# Altium footprint library PcbLib1.PcbLib: 11 footprints
Each footprint in its own frame and in the unit in brackets; x right, y up, seen from the top. Pads: shape width x height; smd on the part's side, far side on the other; paste and mask are expansions set on the pad; w line width, h text height; cw(c..) or ccw(c..) is an arc to the next point about the centre after c.
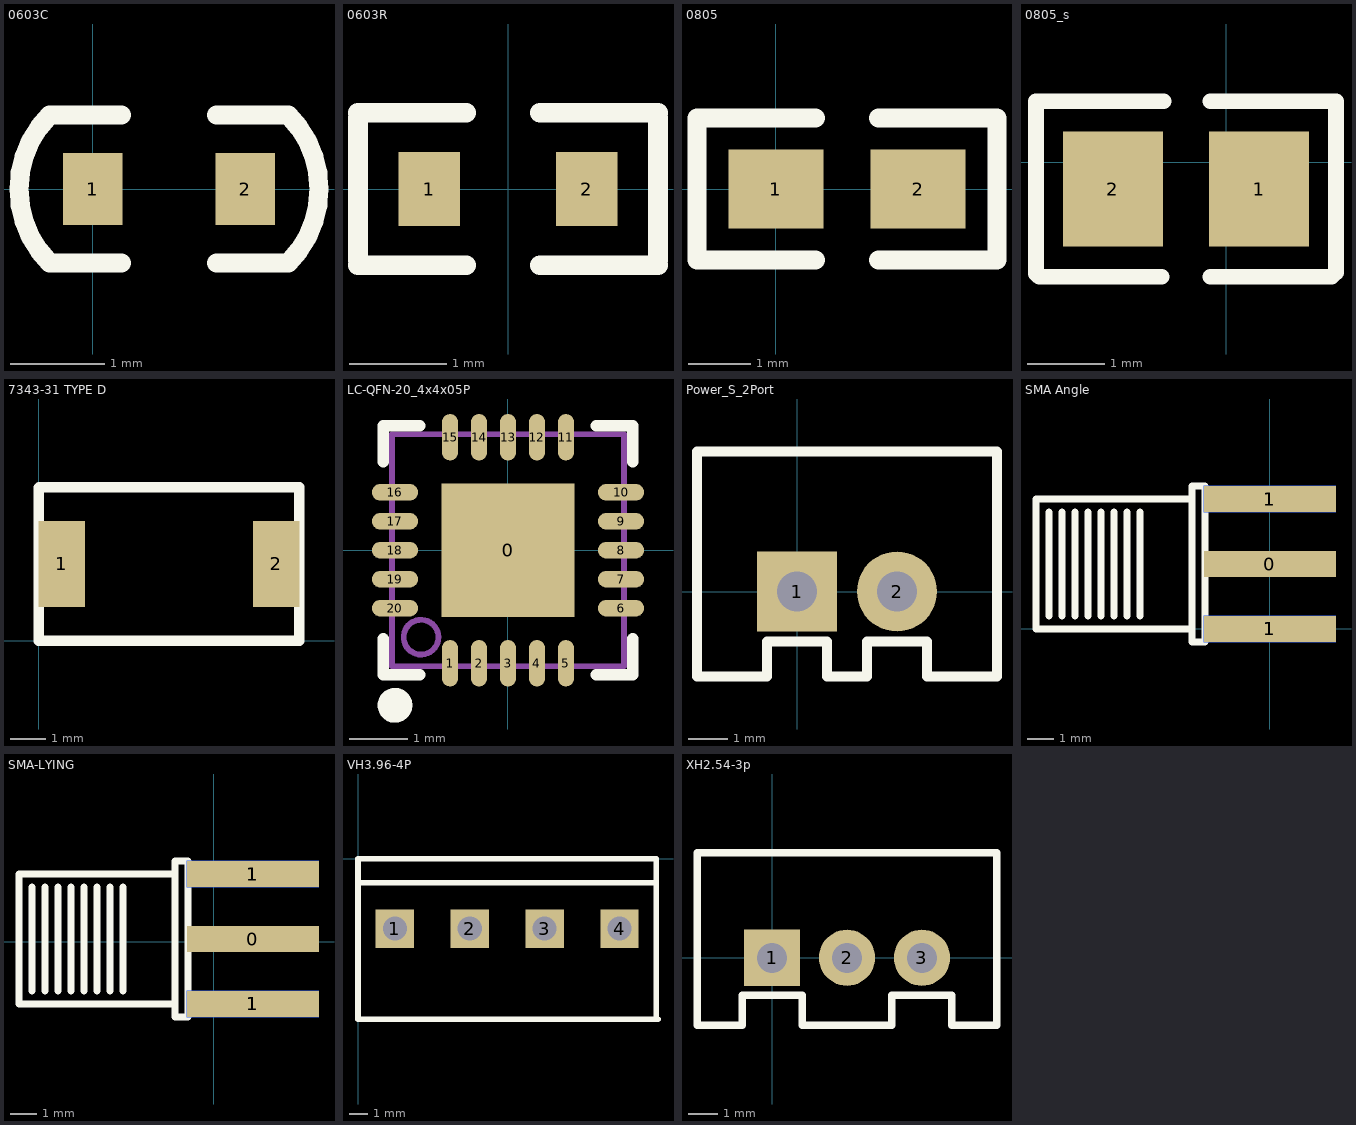
[diagram p0: the footprints below, top view; thin cyan lines are the x and y axes]

## 0603C [mil]
pads (2):
  rect 25x30 smd: 1(0,0) 2(64,0)
Top Overlay:
  lines w8: 12,-31 -18,-31 cw(c13,0) -18,31 12,31 ; 52,-31 82,-31 ccw(c51,0) 82,31 52,31

## 0603R [mil]
pads (2):
  rect 25x30 smd: 1(-32,0) 2(32,0)
Top Overlay:
  lines w8: -61,-31 -17,-31 ; -61,-29 -61,29 ; -61,31 -17,31 ; 13,-31 61,-31 ; 13,31 61,31 ; 61,-29 61,29

## 0805 [mil]
pads (2):
  rect 60x50 smd: 1(0,0) 2(90,0)
Top Overlay:
  lines w12: 25,-45 -50,-45 -50,45 25,45 ; 65,-45 140,-45 140,45 65,45

## 0805_s [mm]
pads (2):
  rect 1.3x1.499 smd: 1(0.425,-0.35) 2(-1.475,-0.35)
Top Overlay:
  lines w0.203: -0.84,-1.493 -2.432,-1.493 -2.475,-1.45 -2.475,0.793 -0.818,0.793 ; -0.21,-1.493 1.368,-1.493 1.425,-1.436 1.425,0.793 -0.21,0.793

## 7343-31 TYPE D [mm]
pads (2):
  rect 1.3x2.4 smd: 1(0.65,2.15) 2(6.65,2.15)
Top Overlay:
  lines w0.3: 0,0 7.3,0 7.3,4.3 0.018,4.3 0,4.282 0,3.556 0,0

## LC-QFN-20_4x4x05P [mm]
pads (21):
  rect 2.3x2.3 smd mask+0.051: 0(0,0)
  oval 0.28x0.8 smd mask+0.051: 1(-1,-1.95) 2(-0.5,-1.95) 3(0,-1.95) 4(0.5,-1.95) 5(1,-1.95) 11(1,1.95) 12(0.5,1.95) 13(0,1.95) 14(-0.5,1.95) 15(-1,1.95)
  oval 0.8x0.28 smd mask+0.051: 6(1.95,-1) 7(1.95,-0.5) 8(1.95,0) 9(1.95,0.5) 10(1.95,1) 16(-1.95,1) 17(-1.95,0.5) 18(-1.95,0) 19(-1.95,-0.5) 20(-1.95,-1)
Top Overlay:
  circle w0.3: c-1.95,-2.675 r0.15
  lines w0.2: -2.15,-1.525 -2.15,-2.15 -1.525,-2.15 ; -2.15,1.525 -2.15,2.15 -1.525,2.15 ; 1.525,-2.15 2.15,-2.15 2.15,-1.525 ; 1.525,2.15 2.15,2.15 2.15,1.525
Mechanical 13:
  circle w0.1: c-1.5,-1.5 r0.3
  lines w0.1: -2,-2 2,-2 2,2 -2,2 -2,-2

## Power_S_2Port [mil]
pads (2):
  rect 80x80 hole 40: 1(0,0)
  round 80 hole 40: 2(100,0)
Top Overlay:
  lines w10: -100,-85 -100,140 200,140 200,-85 130,-85 130,-50 70,-50 70,-85 30,-85 30,-50 -30,-50 -30,-85 -100,-85

## SMA Angle [mil]
pads (5):
  rect 200x40 smd: 0(0,98.43) 1(0,0) 1(0,196.85)
  rect 200x40 smd far side: 1(0,0) 1(0,196.85)
Top Overlay:
  lines w10: -334.65,19.68 -334.65,177.17 ; -314.96,19.68 -314.96,177.17 ; -295.28,19.68 -295.28,177.17 ; -275.59,19.68 -275.59,177.17 ; -255.91,19.68 -255.91,177.17 ; -236.22,19.68 -236.22,177.17 ; -216.54,19.68 -216.54,39.37 -216.54,177.17 ; -196.85,19.68 -196.85,177.17 ; -118.11,0 -354.33,0 -354.33,196.85 -118.11,196.85 ; -118.11,-19.68 -118.11,216.54 -98.43,216.54 -98.43,0 -98.43,-19.68 -118.11,-19.68

## SMA-LYING [mm]
height 8.2
pads (5):
  rect 5.08x1.016 smd: 0(1.5,0.1) 1(1.5,-2.4) 1(1.5,2.6)
  rect 5.08x1.016 smd far side: 1(1.5,-2.4) 1(1.5,2.6)
Top Overlay:
  lines w0.254: -7,-1.9 -7,2.1 ; -6.5,-1.9 -6.5,2.1 ; -6,-1.9 -6,2.1 ; -5.5,-1.9 -5.5,2.1 ; -5,-1.9 -5,2.1 ; -4.5,-1.9 -4.5,2.1 ; -4,-1.9 -4,-1.4 -4,2.1 ; -3.5,-1.9 -3.5,2.1 ; -1.5,-2.4 -7.5,-2.4 -7.5,2.6 -1.5,2.6 ; -1.5,-2.9 -1,-2.9 -1,-2.4 -1,3.1 -1.5,3.1 -1.5,-2.9

## VH3.96-4P [mm]
pads (4):
  rect 2.032x2.032 hole 1.27: 1(1.95,-3.7) 2(5.91,-3.7) 3(9.87,-3.7) 4(13.83,-3.7)
Top Overlay:
  lines w0.3: 0,-1.27 15.78,-1.27 ; 15.78,-8.414 15.78,0 0,0 0,-8.5 15.866,-8.5

## XH2.54-3p [mil]
pads (3):
  rect 75x75 hole 40: 1(0,0)
  round 75 hole 40: 2(100,0) 3(200,0)
Top Overlay:
  lines w10: -100,-90 -100,140 300,140 300,-90 240,-90 240,-50 160,-50 160,-90 40,-90 40,-50 -40,-50 -40,-90 -100,-90